# EAGLE library part USB2517-JZX (library microchip)
Microchip USB2517 QFN-64 package 7-port 2.0 USB hub controller
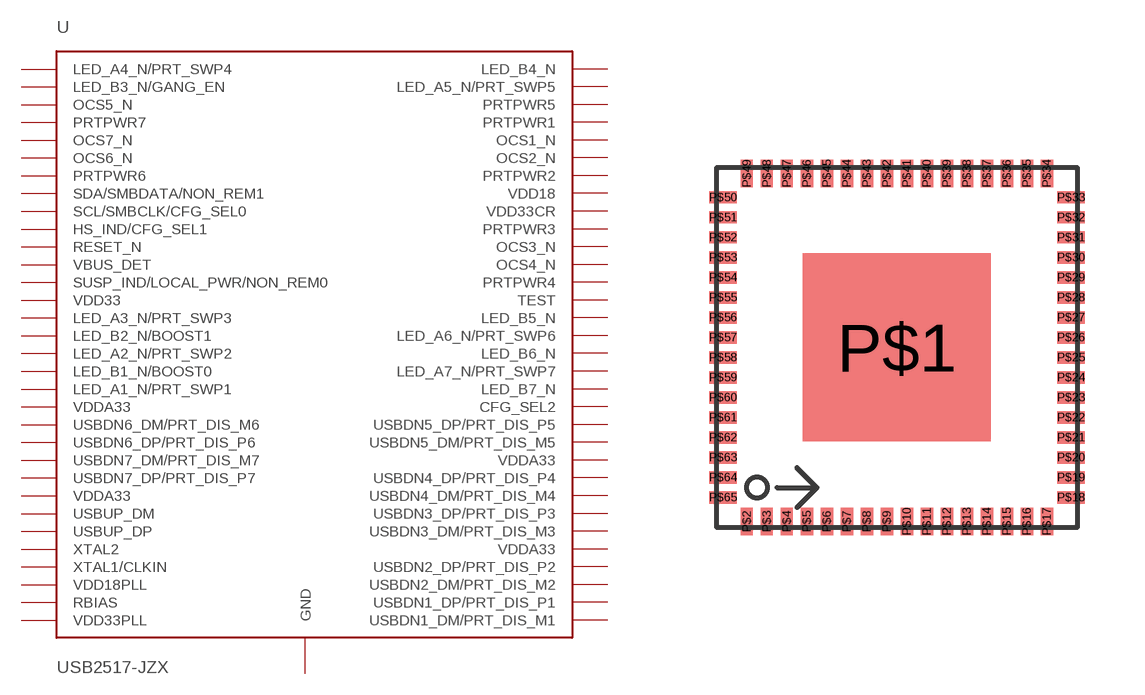
[diagram p1: symbol with the pads of QFN-64; footprint QFN-64]

Designator prefix -

## USB2517-JZX  [QFN-64]
P$1  GND
P$2  USBDN1_DM/PRT_DIS_M1
P$3  USBDN1_DP/PRT_DIS_P1
P$4  USBDN2_DM/PRT_DIS_M2
P$5  USBDN2_DP/PRT_DIS_P2
P$6  VDDA33
P$7  USBDN3_DM/PRT_DIS_M3
P$8  USBDN3_DP/PRT_DIS_P3
P$9  USBDN4_DM/PRT_DIS_M4
P$10  USBDN4_DP/PRT_DIS_P4
P$11  VDDA33
P$12  USBDN5_DM/PRT_DIS_M5
P$13  USBDN5_DP/PRT_DIS_P5
P$14  CFG_SEL2
P$15  LED_B7_N
P$16  LED_A7_N/PRT_SWP7
P$17  LED_B6_N
P$18  LED_A6_N/PRT_SWP6
P$19  LED_B5_N
P$20  TEST
P$21  PRTPWR4
P$22  OCS4_N
P$23  OCS3_N
P$24  PRTPWR3
P$25  VDD33CR
P$26  VDD18
P$27  PRTPWR2
P$28  OCS2_N
P$29  OCS1_N
P$30  PRTPWR1
P$31  PRTPWR5
P$32  LED_A5_N/PRT_SWP5
P$33  LED_B4_N
P$34  LED_A4_N/PRT_SWP4
P$35  LED_B3_N/GANG_EN
P$36  OCS5_N
P$37  PRTPWR7
P$38  OCS7_N
P$39  OCS6_N
P$40  PRTPWR6
P$41  SDA/SMBDATA/NON_REM1
P$42  SCL/SMBCLK/CFG_SEL0
P$43  HS_IND/CFG_SEL1
P$44  RESET_N
P$45  VBUS_DET
P$46  SUSP_IND/LOCAL_PWR/NON_REM0
P$47  VDD33
P$48  LED_A3_N/PRT_SWP3
P$49  LED_B2_N/BOOST1
P$50  LED_A2_N/PRT_SWP2
P$51  LED_B1_N/BOOST0
P$52  LED_A1_N/PRT_SWP1
P$53  VDDA33
P$54  USBDN6_DM/PRT_DIS_M6
P$55  USBDN6_DP/PRT_DIS_P6
P$56  USBDN7_DM/PRT_DIS_M7
P$57  USBDN7_DP/PRT_DIS_P7
P$58  VDDA33
P$59  USBUP_DM
P$60  USBUP_DP
P$61  XTAL2
P$62  XTAL1/CLKIN
P$63  VDD18PLL
P$64  RBIAS
P$65  VDD33PLL

## Footprint QFN-64 (pad centres in mm)
smd 4.7 x 4.7: P$1 0,0
smd 0.3 x 0.7: P$2 -3.75,-4.35; P$3 -3.25,-4.35; P$4 -2.75,-4.35; P$5 -2.25,-4.35; P$6 -1.75,-4.35; P$7 -1.25,-4.35; P$8 -0.75,-4.35; P$9 -0.25,-4.35; P$10 0.25,-4.35; P$11 0.75,-4.35; P$12 1.25,-4.35; P$13 1.75,-4.35; P$14 2.25,-4.35; P$15 2.75,-4.35; P$16 3.25,-4.35; P$17 3.75,-4.35; P$34 3.75,4.35; P$35 3.25,4.35; P$36 2.75,4.35; P$37 2.25,4.35; P$38 1.75,4.35; P$39 1.25,4.35; P$40 0.75,4.35; P$41 0.25,4.35; P$42 -0.25,4.35; P$43 -0.75,4.35; P$44 -1.25,4.35; P$45 -1.75,4.35; P$46 -2.25,4.35; P$47 -2.75,4.35; P$48 -3.25,4.35; P$49 -3.75,4.35
smd 0.7 x 0.3: P$18 4.35,-3.75; P$19 4.35,-3.25; P$20 4.35,-2.75; P$21 4.35,-2.25; P$22 4.35,-1.75; P$23 4.35,-1.25; P$24 4.35,-0.75; P$25 4.35,-0.25; P$26 4.35,0.25; P$27 4.35,0.75; P$28 4.35,1.25; P$29 4.35,1.75; P$30 4.35,2.25; P$31 4.35,2.75; P$32 4.35,3.25; P$33 4.35,3.75; P$50 -4.35,3.75; P$51 -4.35,3.25; P$52 -4.35,2.75; P$53 -4.35,2.25; P$54 -4.35,1.75; P$55 -4.35,1.25; P$56 -4.35,0.75; P$57 -4.35,0.25; P$58 -4.35,-0.25; P$59 -4.35,-0.75; P$60 -4.35,-1.25; P$61 -4.35,-1.75; P$62 -4.35,-2.25; P$63 -4.35,-2.75; P$64 -4.35,-3.25; P$65 -4.35,-3.75